# Altium footprint library PcbLib1.PcbLib: 4 footprints
Each footprint in its own frame and in the unit in brackets; x right, y up, seen from the top. Pads: shape width x height; smd on the part's side, far side on the other; paste and mask are expansions set on the pad; w line width, h text height; cw(c..) or ccw(c..) is an arc to the next point about the centre after c.
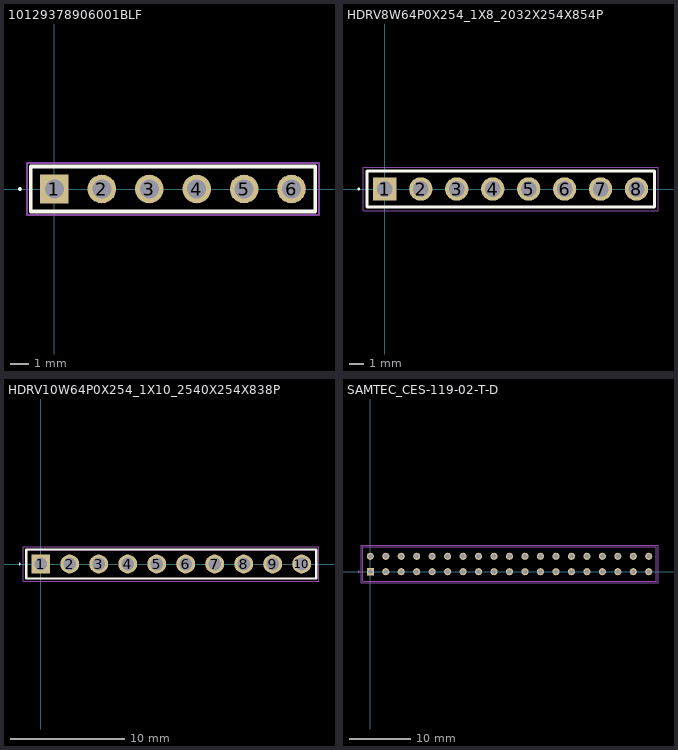
[diagram p0: the footprints below, top view; thin cyan lines are the x and y axes]

## 10129378906001BLF [mm]
pads (6):
  rect 1.53x1.53 hole 1.02: 1(0,0)
  round 1.53 hole 1.02: 2(2.54,0) 3(5.08,0) 4(7.62,0) 5(10.16,0) 6(12.7,0)
Top Overlay:
  lines w0.1: -1.9,0 cw(c-1.85,0) -1.8,0 cw(c-1.85,0) -1.9,0
  lines w0.2: -1.27,-1.205 13.97,-1.205 13.97,1.205 -1.27,1.205 -1.27,-1.205
Mechanical 13:
  lines w0.1: -1.27,-1.205 13.97,-1.205 13.97,1.205 -1.27,1.205 -1.27,-1.205
Mechanical 15:
  lines w0.1: -1.473,-1.397 14.173,-1.397 14.173,1.397 -1.473,1.397 -1.473,-1.397
3D body "10129378-906001BLF.stp": height 5.44, standoff -5.99, extent -1.27,-1.205 13.97,1.205

## HDRV8W64P0X254_1X8_2032X254X854P [mm]
pads (8):
  rect 1.65x1.65 hole 1.1: 1(0,0)
  round 1.65 hole 1.1: 2(2.54,0) 3(5.08,0) 4(7.62,0) 5(10.16,0) 6(12.7,0) 7(15.24,0) 8(17.78,0)
Top Overlay:
  lines w0.1: -1.9,0 ccw(c-1.85,0) -1.8,0 ccw(c-1.85,0) -1.9,0
  lines w0.2: -1.27,-1.27 19.05,-1.27 19.05,1.27 -1.27,1.27 -1.27,-1.27
Mechanical 13:
  lines w0.1: -1.27,-1.27 19.05,-1.27 19.05,1.27 -1.27,1.27 -1.27,-1.27
Mechanical 15:
  lines w0.05: -1.52,-1.52 19.3,-1.52 19.3,1.52 -1.52,1.52 -1.52,-1.52
3D body "61300811121.stp": height 8.54, standoff -3, extent -1.27,-1.27 19.05,1.27

## HDRV10W64P0X254_1X10_2540X254X838P [mm]
pads (10):
  rect 1.65x1.65 hole 1.1: 1(0,0)
  round 1.65 hole 1.1: 2(2.54,0) 3(5.08,0) 4(7.62,0) 5(10.16,0) 6(12.7,0) 7(15.24,0) 8(17.78,0) 9(20.32,0) 10(22.86,0)
Top Overlay:
  lines w0.1: -1.9,0 ccw(c-1.85,0) -1.8,0 ccw(c-1.85,0) -1.9,0
  lines w0.2: -1.27,-1.27 24.13,-1.27 24.13,1.27 -1.27,1.27 -1.27,-1.27
Mechanical 13:
  lines w0.1: -1.27,-1.27 24.13,-1.27 24.13,1.27 -1.27,1.27 -1.27,-1.27
Mechanical 15:
  lines w0.05: -1.52,-1.52 24.38,-1.52 24.38,1.52 -1.52,1.52 -1.52,-1.52
3D body "TSW-110-07-G-S.stp": height 8.38, standoff -2.54, extent -1.27,-1.27 24.13,1.27

## SAMTEC_CES-119-02-T-D [mm]
pads (38):
  rect 1.16x1.16 hole 0.81: 1(0,0)
  round 1.16 hole 0.81: 2(0,2.54) 3(2.54,0) 4(2.54,2.54) 5(5.08,0) 6(5.08,2.54) 7(7.62,0) 8(7.62,2.54) 9(10.16,0) 10(10.16,2.54) 11(12.7,0) 12(12.7,2.54) 13(15.24,0) 14(15.24,2.54) 15(17.78,0) 16(17.78,2.54) 17(20.32,0) 18(20.32,2.54) 19(22.86,0) 20(22.86,2.54) 21(25.4,0) 22(25.4,2.54) 23(27.94,0) 24(27.94,2.54) 25(30.48,0) 26(30.48,2.54) 27(33.02,0) 28(33.02,2.54) 29(35.56,0) 30(35.56,2.54) 31(38.1,0) 32(38.1,2.54) 33(40.64,0) 34(40.64,2.54) 35(43.18,0) 36(43.18,2.54) 37(45.72,0) 38(45.72,2.54)
Bottom Overlay:
  circle w0.2: c-1.92,0 r0.1
  lines w0.2: -1.27,-1.525 46.99,-1.525 46.99,4.065 -1.27,4.065 -1.27,-1.525
Mechanical 13:
  circle w0.2: c-1.92,0 r0.1
  lines w0.1: -1.27,-1.525 46.99,-1.525 46.99,4.065 -1.27,4.065 -1.27,-1.525
Mechanical 15:
  lines w0.05: -1.52,-1.775 47.24,-1.775 47.24,4.315 -1.52,4.315 -1.52,-1.775
3D body "CES-119-02-T-D.stp": height 5.26, standoff -5.49, extent -1.27,-1.524 46.99,4.064